# Altium schematic symbol library CP2108.SchLib: 1 symbol
Pins are listed as number, name and electrical type; pins without a type are passive.

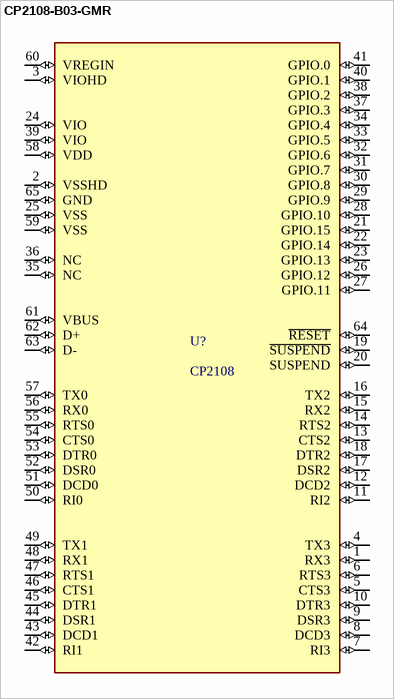
[diagram p0: symbol CP2108-B03-GMR]

## CP2108-B03-GMR
designator U?, comment CP2108
The CP2108 is a highly integrated USB to Quad UART Bridge / Controller providing a simple solution for updating RS-232/ / RS-485 designs to USB using a minimum of components and / PCB space
footprint QFN64
pins: 1 RX3 (io), 2 VSSHD (io), 3 VIOHD (io), 4 TX3 (io), 5 CTS3 (io), 6 RTS3 (io), 7 RI3 (io), 8 DCD3 (io), 9 DSR3 (io), 10 DTR3 (io), 11 RI2 (io), 12 DCD2 (io), 13 CTS2 (io), 14 RTS2 (io), 15 RX2 (io), 16 TX2 (io), 17 DSR2 (io), 18 DTR2 (io), 19 ~{SUSPEND} (io), 20 SUSPEND (io), 21 GPIO.15 (io), 22 GPIO.14 (io), 23 GPIO.13 (io), 24 VIO (io), 25 VSS (io), 26 GPIO.12 (io), 27 GPIO.11 (io), 28 GPIO.10 (io), 29 GPIO.9 (io), 30 GPIO.8 (io), 31 GPIO.7 (io), 32 GPIO.6 (io), 33 GPIO.5 (io), 34 GPIO.4 (io), 35 NC (io), 36 NC (io), 37 GPIO.3 (io), 38 GPIO.2 (io), 39 VIO (io), 40 GPIO.1 (io), 41 GPIO.0 (io), 42 RI1 (io), 43 DCD1 (io), 44 DSR1 (io), 45 DTR1 (io), 46 CTS1 (io), 47 RTS1 (io), 48 RX1 (io), 49 TX1 (io), 50 RI0 (io), 51 DCD0 (io), 52 DSR0 (io), 53 DTR0 (io), 54 CTS0 (io), 55 RTS0 (io), 56 RX0 (io), 57 TX0 (io), 58 VDD (io), 59 VSS (io), 60 VREGIN (io), 61 VBUS (io), 62 D+ (io), 63 D- (io), 64 ~{RESET} (io), 65 GND (io)